# Altium schematic symbol library FET_P_CHANNEL_ENH_SDG.SchLib: 1 symbol
Pins are listed as number, name and electrical type; pins without a type are passive.

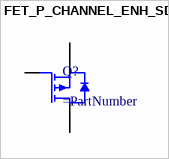
[diagram p0: symbol FET_P_CHANNEL_ENH_SDG]

## FET_P_CHANNEL_ENH_SDG
designator Q?
pins: 1 S, 2 D, 3 G